# Altium footprint library MCU.PcbLib: 21 footprints (part 2 of 2)
Each footprint in its own frame and in the unit in brackets; x right, y up, seen from the top. Pads: shape width x height; smd on the part's side, far side on the other; paste and mask are expansions set on the pad; w line width, h text height; cw(c..) or ccw(c..) is an arc to the next point about the centre after c.
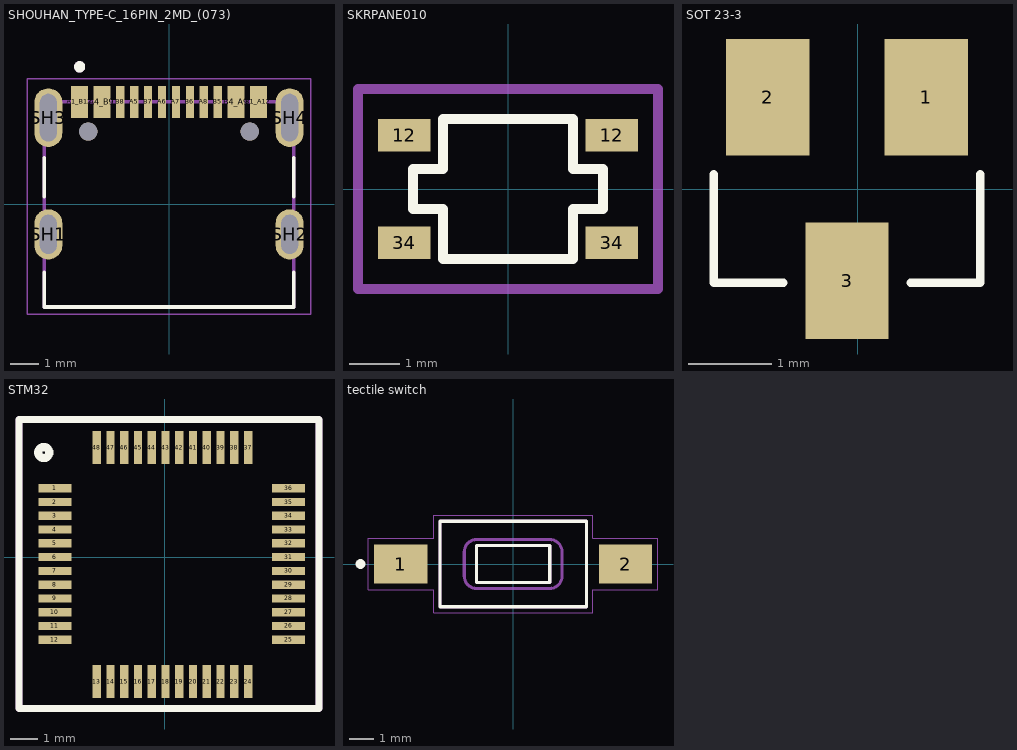
[diagram p1: the footprints below, top view; thin cyan lines are the x and y axes]

## SHOUHAN_TYPE-C_16PIN_2MD_(073) [mm]
height 3.16
pads (18):
  rect 0.6x1.15 smd paste+0 mask+0: A1_B12(-3.2,3.67) A4_B9(-2.4,3.67) B1_A12(3.2,3.67) B4_A9(2.4,3.67)
  rect 0.3x1.15 smd paste+0 mask+0: A5(-1.25,3.67) A6(-0.25,3.67) A7(0.25,3.67) A8(1.25,3.67) B5(1.75,3.67) B6(0.75,3.67) B7(-0.75,3.67) B8(-1.75,3.67)
  oval 1x1.8 hole 0.6 slot 1.4 at 90 deg mask+0.102: SH1(-4.32,-1.075) SH2(4.32,-1.075)
  oval 1x2.1 hole 0.6 slot 1.7 at 90 deg mask+0.102: SH3(-4.32,3.105) SH4(4.32,3.105)
  round 0.65 hole 0.65 unplated mask+0: ""(-2.89,2.605) ""(2.89,2.605)
Top Overlay:
  circle w0.2: c-3.2,4.925 r0.1
  lines w0.127: -4.47,-2.425 -4.47,-3.675 4.47,-3.675 4.47,-2.425 ; -4.47,0.275 -4.47,1.675 ; 4.47,0.275 4.47,1.675
Top Solder:
  region: 2.75,3.055 2.05,3.055 2.05,4.295 2.75,4.295
  region: -2.05,3.055 -2.75,3.055 -2.75,4.295 -2.05,4.295
  region: 3.55,3.055 2.85,3.055 2.85,4.295 3.55,4.295
  region: -2.85,3.055 -3.55,3.055 -3.55,4.295 -2.85,4.295
  region: 0.45,3.055 0.05,3.055 0.05,4.295 0.45,4.295
  region: -0.05,3.055 -0.45,3.055 -0.45,4.295 -0.05,4.295
  region: 0.95,3.055 0.55,3.055 0.55,4.295 0.95,4.295
  region: 1.45,3.055 1.05,3.055 1.05,4.295 1.45,4.295
  region: 1.95,3.055 1.55,3.055 1.55,4.295 1.95,4.295
  region: -0.55,3.055 -0.95,3.055 -0.95,4.295 -0.55,4.295
  region: -1.05,3.055 -1.45,3.055 -1.45,4.295 -1.05,4.295
  region: -1.55,3.055 -1.95,3.055 -1.95,4.295 -1.55,4.295
Mechanical 13:
  circle w0.2: c-3.2,4.925 r0.1
  lines w0.127: -4.47,-3.675 -4.47,3.675 4.47,3.675 4.47,-3.675 -4.47,-3.675
Mechanical 15:
  lines w0.05: -5.07,-3.925 5.07,-3.925 5.07,4.495 -5.07,4.495 -5.07,-3.925
3D body "step_temp.STEP": height 3.26, standoff -0.9, extent -4.47,-3.675 4.47,3.975

## SKRPANE010 [mm]
pads (4):
  rect 1.05x0.65 smd: 12(-2.075,1.075) 12(2.075,1.075) 34(-2.075,-1.075) 34(2.075,-1.075)
Top Overlay:
  lines w0.2: -1.9,-0.4 -1.3,-0.4 -1.3,-1.4 1.3,-1.4 1.3,-0.4 1.9,-0.4 1.9,0.4 1.3,0.4 1.3,1.4 -1.3,1.4 -1.3,0.4 -1.9,0.4 -1.9,-0.4
Mechanical 13:
  lines w0.2: -3,-2 -3,2 3,2 3,-2 -3,-2
  text "'.Designator'" at -6.315,-1.4 h1
3D body "SKRPANE010.step": height 2.51, standoff 0.01, extent -2.3,-1.6 2.3,1.6

## SOT 23-3 [mm] "Case: SOT23"
height 1.1
pads (3):
  rect 1x1.4 smd paste+0 mask+0.076: 1(0.823,1.1) 2(-1.077,1.1) 3(-0.127,-1.1)
Top Overlay:
  lines w0.1: -1.727,0.175 -1.727,-1.125 -0.89,-1.125 ; 0.635,-1.125 1.473,-1.125 1.473,0.175
3D body "SOT23_TO-236AA.STEP": height 1.3, standoff 0, extent -1.627,-1.5 1.373,1.5

## STM32 [mm]
pads (48):
  rect 1.2x0.3 smd mask+0.102: 1(-4,2.5) 2(-4,2) 3(-4,1.5) 4(-4,1) 5(-4,0.5) 6(-4,0) 7(-4,-0.5) 8(-4,-1) 9(-4,-1.5) 10(-4,-2) 11(-4,-2.5) 12(-4,-3) 25(4.5,-3) 26(4.5,-2.5) 27(4.5,-2) 28(4.5,-1.5) 29(4.5,-1) 30(4.5,-0.5) 31(4.5,0) 32(4.5,0.5) 33(4.5,1) 34(4.5,1.5) 35(4.5,2) 36(4.5,2.5)
  rect 0.3x1.2 smd mask+0.102: 13(-2.475,-4.525) 14(-1.975,-4.525) 15(-1.475,-4.525) 16(-0.975,-4.525) 17(-0.475,-4.525) 18(0.025,-4.525) 19(0.525,-4.525) 20(1.025,-4.525) 21(1.525,-4.525) 22(2.025,-4.525) 23(2.525,-4.525) 24(3.025,-4.525) 37(3.025,3.975) 38(2.525,3.975) 39(2.025,3.975) 40(1.525,3.975) 41(1.025,3.975) 42(0.525,3.975) 43(0.025,3.975) 44(-0.475,3.975) 45(-0.975,3.975) 46(-1.475,3.975) 47(-1.975,3.975) 48(-2.475,3.975)
Top Overlay:
  circle w0.3: c-4.4,3.8 r0.2
  lines w0.254: -4.7,5 5.6,5 5.6,-5.5 -5.3,-5.5 -5.3,5 -4.5,5
Mechanical 29:
  lines w0.254: -5.3,-5.5 -5.3,5 5.6,5 5.6,-5.5 -5.3,-5.5
  text ".Designator" at -3.5,-0.167 h0.7
3D body "STM32F103C8T6--3DModel-STEP-510211.STEP": height 1.6, standoff 0, extent -4.25,-4.75 4.75,4.25

## tectile switch [mm]
pads (2):
  rect 2.18x1.6 smd paste+0 mask+0.102: 1(-4.6,0) 2(4.6,0)
Top Overlay:
  circle w0.2: c-6.25,0 r0.1
  lines w0.127: -3,-1.75 -3,1.75 3,1.75 3,-1.75 -3,-1.75 ; -1.5,-0.75 -1.5,0.75 1.5,0.75 1.5,-0.75 -1.5,-0.75
Mechanical 13:
  circle w0.2: c-4.6,0 r0.1
  lines w0.127: -3,-1.75 -3,1.75 3,1.75 3,-1.75 -3,-1.75 ; -2,-0.5 ccw(c-1.5,-0.5) -1.5,-1 1.5,-1 ccw(c1.5,-0.5) 2,-0.5 2,0.5 ccw(c1.5,0.5) 1.5,1 -1.5,1 ccw(c-1.5,0.5) -2,0.5 -2,-0.5 ; -1.5,-0.75 -1.5,0.75 1.5,0.75 1.5,-0.75 -1.5,-0.75
Mechanical 15:
  lines w0.05: -5.93,-1.05 -3.25,-1.05 -3.25,-2 3.25,-2 3.25,-1.05 5.93,-1.05 5.93,1.05 3.25,1.05 3.25,2 -3.25,2 -3.25,1.05 -5.93,1.05 -5.93,-1.05
3D body "step_temp.STEP": height 4.39, standoff -0.02, extent -4.985,-1.75 4.985,1.75